# Altium schematic symbol library Cap_Taiyo_Yuden_EMK212B7475KG-T_4_7uF.SchLib: 1 symbol
Pins are listed as number, name and electrical type; pins without a type are passive.

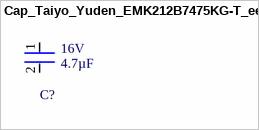
[diagram p0: symbol Cap_Taiyo_Yuden_EMK212B7475KG-T_eec]

## Cap_Taiyo_Yuden_EMK212B7475KG-T_eec
designator C?  Capacitance: 4.7µF  Voltage: 16V
CAP CER 4.7UF 16V X7R 0805; Part Number: EMK212B7475KG-T; Manufacturer: Taiyo Yuden; Value: 4.7µF; Tolerance: ±10%; helpURL: https://upverter.com/upn/revision/9a49a88368e6f3d1/; ComponentLink2Description: Datasheet; Temperature: -55°C to +125°C; Package: 0805 (2012 metric); Supplier 2: Mouser; Price: 0.0919914063121; Supplier 1: Digi-Key; ComponentLink1URL: https://upverter.com/upn/revision/9a49a88368e6f3d1/; Supplier Part Number 2: 963-EMK212B7475KG-T; Supplier Part Number 1: 587-2394-1-ND; ComponentLink1Description: Upverter; ComponentLink2URL: https://www.yuden.co.jp/productdata/catalog/mlcc06_e.pdf; RoHS: TRUE; Mouser Part Number: 963-EMK212B7475KG-T; Temperature Coefficient: X7R; Ipc Land Pattern Name: CAPC200125X45; Temperature Range High: +125°C; Digikey Description: CAP CER 4.7UF 16V X7R 0805; Digikey Part Number: 587-2394-1-ND; Lead Free: yes; Temperature Range Low: -55°C
footprint Taiyo_Yuden_EMK212B7475KG-T_0
pins: 1, 2